# Altium footprint library Power_Embedded_Board_Library.PcbLib: 42 footprints (part 1 of 3)
Each footprint in its own frame and in the unit in brackets; x right, y up, seen from the top. Pads: shape width x height; smd on the part's side, far side on the other; paste and mask are expansions set on the pad; w line width, h text height; cw(c..) or ccw(c..) is an arc to the next point about the centre after c.
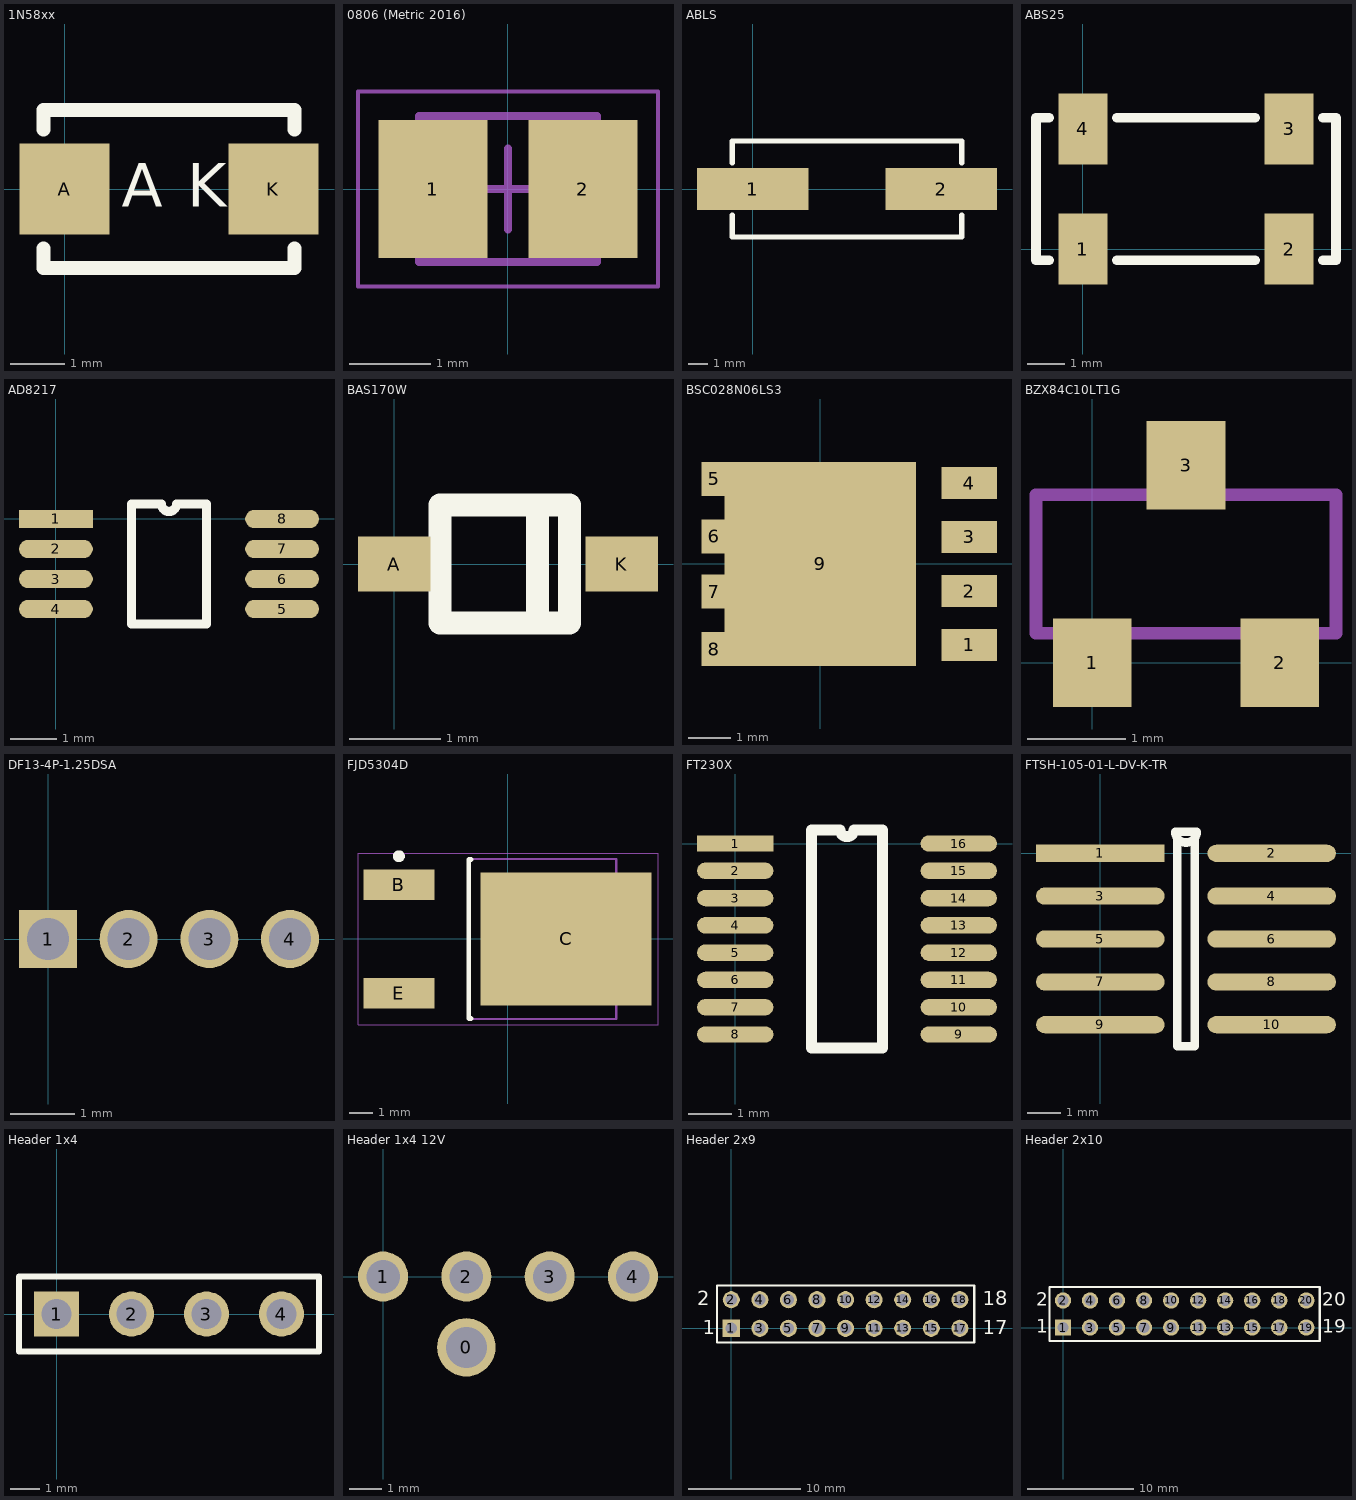
[diagram p0: the footprints below, top view; thin cyan lines are the x and y axes]

## 1N58xx [mm] "1A Schottky Barrier Rectifier Diode"
height 2.44
pads (2):
  rect 1.655x1.67 smd: A(0,0) K(3.83,0)
Top Overlay:
  lines w0.254: -0.385,-1.09 -0.385,-1.45 4.215,-1.45 4.215,-1.09 ; -0.385,1.09 -0.385,1.45 4.215,1.45 4.215,1.09
  text "K" at 2.25,-0.325 h0.8
  text "A" at 1.05,-0.325 h0.8

## 0806 (Metric 2016) [mm] "Molded Inductor, 2-Leads, Body 2.00x1.60mm, IPC Medium Density"
height 1
pads (2):
  rect 1.35x1.7 smd: 1(-0.925,0) 2(0.925,0)
Mechanical 13:
  lines w0.1: -1.1,-0.9 1.1,-0.9 1.1,0.9 -1.1,0.9 -1.1,-0.9
Mechanical 15:
  lines w0.05: -1.85,-1.2 1.85,-1.2 1.85,1.2 -1.85,1.2 -1.85,-1.2
  lines w0.1: -0.5,0 0.5,0 ; 0,-0.5 0,0.5
3D body "INDM2016X10N.step": height 1, standoff 0, extent -1.32,-0.9 1.32,0.9

## ABLS [mm] "SMD Low Profile Crystal - 3.579545 MHz to 75 MHz"
height 4.2
pads (2):
  rect 5.6x2.1 smd: 1(0,0) 2(9.5,0)
Top Overlay:
  lines w0.254: -1.025,-1.3 -1.025,-2.425 10.525,-2.425 10.525,-1.3 ; -1.025,1.3 -1.025,2.425 10.525,2.425 10.525,1.3

## ABS25 [mm] "32.768 kHz Low Frequency SMD Crystal"
height 2.5
pads (4):
  rect 1.3x1.9 smd: 1(0,0) 2(5.5,0) 3(5.5,3.2) 4(0,3.2)
Top Overlay:
  lines w0.254: -0.9,-0.3 -1.25,-0.3 -1.25,3.5 -0.9,3.5 ; 0.9,-0.3 4.6,-0.3 ; 0.9,3.5 4.6,3.5 ; 6.4,-0.3 6.75,-0.3 6.75,3.5 6.4,3.5

## AD8217 [mm] "High Resolution, Zero-Drift Current Shunt Monitor"
height 1.1
pads (8):
  rect 1.6x0.4 smd: 1(0,0)
  oval 1.6x0.4 smd: 2(0,-0.65) 3(0,-1.3) 4(0,-1.95) 5(4.9,-1.95) 6(4.9,-1.3) 7(4.9,-0.65) 8(4.9,0)
Top Overlay:
  lines w0.2: 1.635,-2.275 1.635,0.325 2.288,0.325 ccw(c2.45,0.325) 2.612,0.325 3.265,0.325 3.265,-2.275 1.635,-2.275

## BAS170W [mm] "SCHOTTKY DIODE"
height 0.9
pads (2):
  rect 0.8x0.6 smd: A(0,0) K(2.5,0)
Top Overlay:
  lines w0.254: 1.575,-0.6 1.575,0.6 ; 1.9,-0.65 0.5,-0.65 0.5,0.65 1.925,0.65 1.925,-0.65
Mechanical 1:

## BSC028N06LS3 [mm] "N-Channel MOSFET"
pads (9):
  rect 1.3x0.75 smd: 1(3.5,-1.9) 2(3.5,-0.635) 3(3.5,0.635) 4(3.5,1.9)
  rect 0.6x0.8 smd: 5(-2.5,2) 6(-2.5,0.65) 7(-2.5,-0.65) 8(-2.5,-2)
  rect 4.5x4.8 smd: 9(0,0)

## BZX84C10LT1G [mm] "SOT-23"
pads (3):
  rect 0.8x0.9 smd: 1(0,0) 2(1.9,0) 3(0.95,2)
Mechanical 13:
  lines w0.127: -0.57,0.3 -0.57,1.7 2.47,1.7 2.47,0.3 -0.57,0.3
3D body: height 1.15, standoff 0.05, extent -0.575,0.294 2.475,1.706

## DF13-4P-1.25DSA [mm] "Depth Sensor Header footprint"
pads (4):
  rect 0.9x0.9 hole 0.65: 1(0,0)
  round 0.9 hole 0.65: 2(1.25,0) 3(2.5,0) 4(3.75,0)

## FJD5304D [mm] "D-PAK, 3-Pads, Body 6.21x6.73mm (max), IPC Medium Density"
height 2.38
pads (3):
  rect 3x1.3 smd: B(-4.6,2.29) E(-4.6,-2.29)
  rect 7.2x5.6 smd: C(2.45,0)
Top Overlay:
  circle w0.25: c-4.6,3.49 r0.125
  lines w0.2: -1.55,-3.35 -1.65,-3.35 -1.65,3.35 -1.55,3.35
Mechanical 13:
  lines w0.1: -1.65,-3.375 4.57,-3.375 4.57,3.375 -1.65,3.375 -1.65,-3.375
Mechanical 15:
  lines w0.05: -6.325,-3.625 6.325,-3.625 6.325,3.625 -6.325,3.625 -6.325,-3.625
  lines w0.1: -0.5,0 0.5,0 ; 0,-0.5 0,0.5
3D body "DPAK229P991X238-3N.step": height 2.51, standoff 0, extent -3.59,-3.375 6.315,3.375

## FT230X [mil] "USB to BASIC UART IC"
height 68.9
pads (16):
  rect 70x15 smd: 1(0,0)
  oval 70x15 smd: 2(0,-25) 3(0,-50) 4(0,-75) 5(0,-100) 6(0,-125) 7(0,-150) 8(0,-175) 9(205,-175) 10(205,-150) 11(205,-125) 12(205,-100) 13(205,-75) 14(205,-50) 15(205,-25) 16(205,0)
Top Overlay:
  lines w10: 70,-187.5 70,12.5 96.25,12.5 ccw(c102.5,12.5) 108.75,12.5 135,12.5 135,-187.5 70,-187.5

## FTSH-105-01-L-DV-K-TR [mil] "CONN HEADER 10POS DUAL .05\" SMD"
height 218.9
pads (10):
  rect 150x20 smd: 1(0,0)
  oval 150x20 smd: 2(200,0) 3(0,-50) 4(200,-50) 5(0,-100) 6(200,-100) 7(0,-150) 8(200,-150) 9(0,-200) 10(200,-200)
Top Overlay:
  lines w10: 87.5,25 ccw(c100,25) 112.5,25 90,25 90,-225 110,-225 110,25 87.5,25

## Header 1x4 [mil]
pads (4):
  rect 60x60 hole 40: 1(0,0)
  round 60 hole 40: 2(100,0) 3(200,0) 4(300,0)
Top Overlay:
  lines w7.87: -50,-50 350,-50 350,50 -50,50 -50,-50

## Header 1x4 12V [mm]
pads (5):
  round 1.778 hole 1.25: 0(2.54,-2.16)
  round 1.528 hole 1.02: 1(0,0) 2(2.54,0) 3(5.08,0) 4(7.62,0)

## Header 2x9 [mil]
pads (18):
  rect 60x60 hole 40: 1(0,0)
  round 60 hole 40: 2(0,100) 3(100,0) 4(100,100) 5(200,0) 6(200,100) 7(300,0) 8(300,100) 9(400,0) 10(400,100) 11(500,0) 12(500,100) 13(600,0) 14(600,100) 15(700,0) 16(700,100) 17(800,0) 18(800,100)
Top Overlay:
  lines w7.87: -50,-50 -50,150 850,150 850,-50 -50,-50
  text "2" at -120,80 h50
  text "1" at -100,-20 h50
  text "17" at 880,-20 h50
  text "18" at 880,80 h50

## Header 2x10 [mil]
pads (20):
  rect 60x60 hole 40: 1(0,0)
  round 60 hole 40: 2(0,100) 3(100,0) 4(100,100) 5(200,0) 6(200,100) 7(300,0) 8(300,100) 9(400,0) 10(400,100) 11(500,0) 12(500,100) 13(600,0) 14(600,100) 15(700,0) 16(700,100) 17(800,0) 18(800,100) 19(900,0) 20(900,100)
Top Overlay:
  lines w7.87: -50,-50 -50,150 25,150 950,150 950,-50 25,-50 -50,-50
  text "2" at -100,80 h50
  text "1" at -100,-20 h50
  text "19" at 960,-20 h50
  text "20" at 960,80 h50